# Altium footprint library QFP48P50_900X900X160L60X22N.PcbLib: 1 footprints
Each footprint in its own frame and in the unit in brackets; x right, y up, seen from the top. Pads: shape width x height; smd on the part's side, far side on the other; paste and mask are expansions set on the pad; w line width, h text height; cw(c..) or ccw(c..) is an arc to the next point about the centre after c.
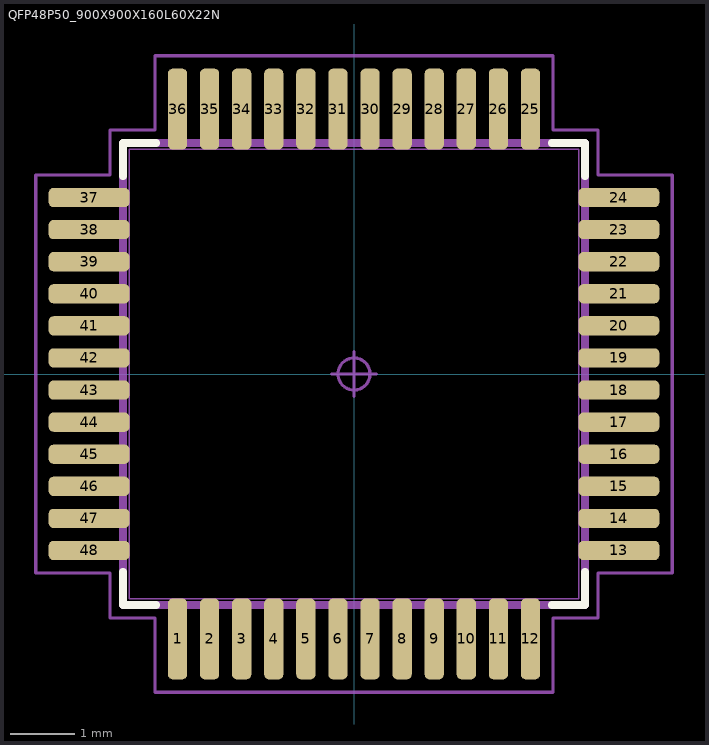
[diagram p0: the footprint, top view; thin cyan lines are the x and y axes]

## QFP48P50_900X900X160L60X22N [mm] "Quad Flat Pack (QFP), 0.50 mm pitch;  square, 12 pin X 12 pin, 7.00 mm L X 7.00 mm W X 1.60 mm H body"
height 1.6
pads (48):
  rrect50% 0.3x1.259 smd: 1(-2.75,-4.128) 2(-2.25,-4.128) 3(-1.75,-4.128) 4(-1.25,-4.128) 5(-0.75,-4.128) 6(-0.25,-4.128) 7(0.25,-4.128) 8(0.75,-4.128) 9(1.25,-4.128) 10(1.75,-4.128) 11(2.25,-4.128) 12(2.75,-4.128) 25(2.75,4.128) 26(2.25,4.128) 27(1.75,4.128) 28(1.25,4.128) 29(0.75,4.128) 30(0.25,4.128) 31(-0.25,4.128) 32(-0.75,4.128) 33(-1.25,4.128) 34(-1.75,4.128) 35(-2.25,4.128) 36(-2.75,4.128)
  rrect50% 1.259x0.3 smd: 13(4.128,-2.75) 14(4.128,-2.25) 15(4.128,-1.75) 16(4.128,-1.25) 17(4.128,-0.75) 18(4.128,-0.25) 19(4.128,0.25) 20(4.128,0.75) 21(4.128,1.25) 22(4.128,1.75) 23(4.128,2.25) 24(4.128,2.75) 37(-4.128,2.75) 38(-4.128,2.25) 39(-4.128,1.75) 40(-4.128,1.25) 41(-4.128,0.75) 42(-4.128,0.25) 43(-4.128,-0.25) 44(-4.128,-0.75) 45(-4.128,-1.25) 46(-4.128,-1.75) 47(-4.128,-2.25) 48(-4.128,-2.75)
Top Overlay:
  lines w0.12: -3.6,-3.08 -3.6,-3.6 -3.08,-3.6 ; -3.6,3.08 -3.6,3.6 -3.08,3.6 ; 3.08,-3.6 3.6,-3.6 3.6,-3.08 ; 3.08,3.6 3.6,3.6 3.6,3.08
Mechanical 3:
  lines w0.12: -3.6,-3.6 3.6,-3.6 3.6,3.6 -3.6,3.6 -3.6,-3.6
Mechanical 5:
  drawing of 192 lines, arcs and shapes, not listed
Mechanical 7:
  circle w0.05: c0,0 r0.25
  lines w0.025: -3.5,-3.5 3.5,-3.5 3.5,3.5 -3.5,3.5 -3.5,-3.5
  lines w0.05: -0.35,0 0.35,0 ; 0,-0.35 0,0.35 ; -4.958,-3.1 -3.8,-3.1 -3.8,-3.8 -3.1,-3.8 -3.1,-4.958 3.1,-4.958 3.1,-3.8 3.8,-3.8 3.8,-3.1 4.958,-3.1 4.958,3.1 3.8,3.1 3.8,3.8 3.1,3.8 3.1,4.958 -3.1,4.958 -3.1,3.8 -3.8,3.8 -3.8,3.1 -4.958,3.1 -4.958,-3.1
3D body "QFP48P50_900X900X160L60X22.STEP": height 1.6, standoff 0, extent -4.5,-4.5 4.5,4.5